# EAGLE library part DB9F (library work)
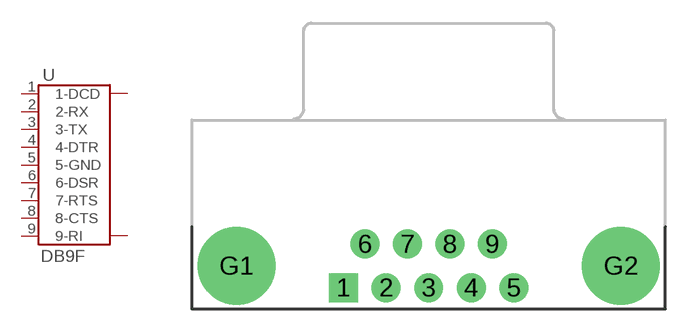
[diagram p5: symbol with the pads of DB9F; footprint DB9F]

Designator prefix -

## DB9F  [DB9F]
1  1-DCD
2  2-RX
3  3-TX
4  4-DTR
5  5-GND
6  6-DSR
7  7-RTS
8  8-CTS
9  9-RI
G1  SHIELD1
G2  SHIELD2

## Footprint DB9F (pad centres in mm)
drill 1.016 pad 1.88 square: 1 -5.54,-3.96
drill 1.016 pad 1.88: 2 -2.77,-3.96; 3 0,-3.96; 4 2.77,-3.96; 5 5.54,-3.96; 6 -4.15,-1.12; 7 -1.38,-1.12; 8 1.38,-1.12; 9 4.15,-1.12
drill 3.302 pad 5.08: G1 -12.5,-2.54; G2 12.5,-2.54